# EAGLE library part ARDUINO_MODIFICABLE_ARDUINOR3 (library PICBoardv1.0)
This is a new object for the new Arduino R3 - with extra pins that you may want to use (such as IOref, and duplicated A4/A5
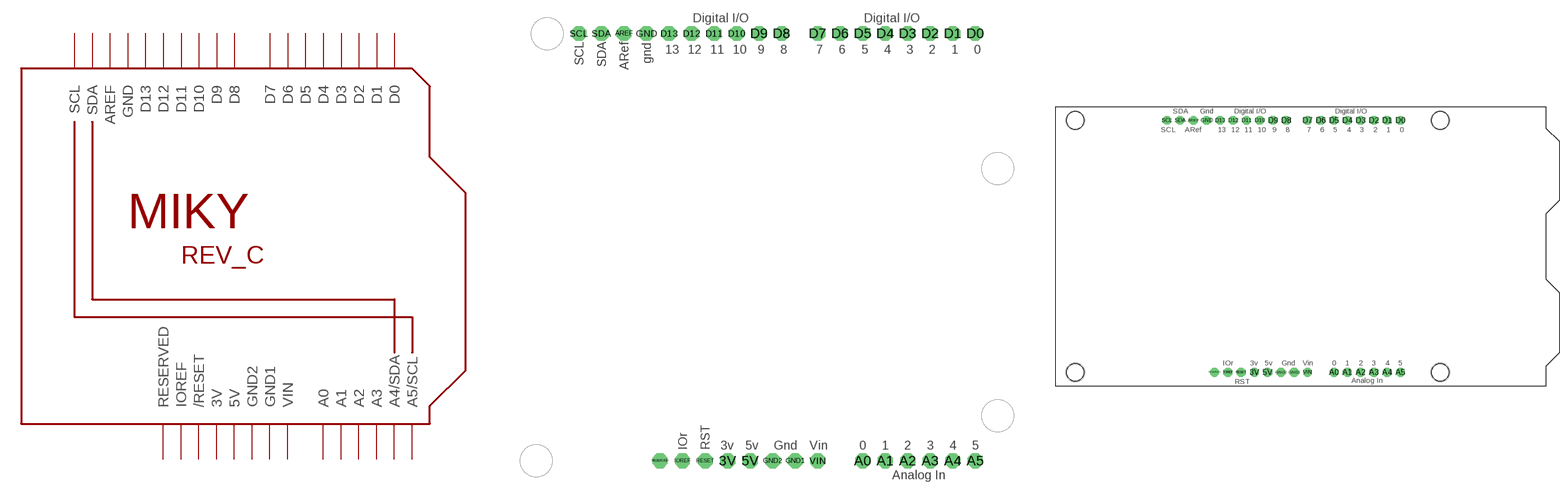
[diagram p0: symbol with the pads of ARDUINO_MODIFICABLE_ARDUINOR3-BPLACE; footprints ARDUINO_MODIFICABLE_ARDUINOR3-BPLACE, ARDUINO_MODIFICABLE_ARDUINOR3]

Designator prefix U

## ARDUINO_MODIFICABLE_ARDUINOR3-BPLACE  [ARDUINO_MODIFICABLE_ARDUINOR3-BPLACE]
3V  3V  pwr
5V  5V  pwr
A0  A0
A1  A1
A2  A2
A3  A3
A4  A4/SDA
A5  A5/SCL
AREF  AREF
D0  D0
D1  D1
D2  D2
D3  D3
D4  D4
D5  D5
D6  D6
D7  D7
D8  D8
D9  D9
D10  D10
D11  D11
D12  D12
D13  D13
GND  GND  pwr
GND1  GND1  pwr
GND2  GND2  pwr
IOREF  IOREF  out
RESERVED  RESERVED  nc
RESET  /RESET
SCL  SCL
SDA  SDA
VIN  VIN  pwr

## ARDUINO_MODIFICABLE_ARDUINOR3-DIMENSION  [ARDUINO_MODIFICABLE_ARDUINOR3]
Pads as for ARDUINO_MODIFICABLE_ARDUINOR3-BPLACE

## Footprint ARDUINO_MODIFICABLE_ARDUINOR3-BPLACE (pad centres in mm)
drill 1 pad 1.676 octagon: 3V 35.56,2.54; 5V 38.1,2.54; A0 50.8,2.54; A1 53.34,2.54; A2 55.88,2.54; A3 58.42,2.54; A4 60.96,2.54; A5 63.5,2.54; AREF 23.876,50.8; D0 63.5,50.8; D1 60.96,50.8; D2 58.42,50.8; D3 55.88,50.8; D4 53.34,50.8; D5 50.8,50.8; D6 48.26,50.8; D7 45.72,50.8; D8 41.656,50.8; D9 39.116,50.8; D10 36.576,50.8; D11 34.036,50.8; D12 31.496,50.8; D13 28.956,50.8; GND 26.416,50.8; GND1 43.18,2.54; GND2 40.64,2.54; IOREF 30.48,2.54; RESERVED 27.94,2.54; RESET 33.02,2.54; SCL 18.796,50.8; SDA 21.336,50.8; VIN 45.72,2.54

## Footprint ARDUINO_MODIFICABLE_ARDUINOR3 (pad centres in mm)
The new Arduino R3 'classic' adds duplicate I2C pins and an IORef pin (and an unused pin
drill 1 pad 1.676 octagon: 3V 38.1,2.54; 5V 40.64,2.54; A0 53.34,2.54; A1 55.88,2.54; A2 58.42,2.54; A3 60.96,2.54; A4 63.5,2.54; A5 66.04,2.54; AREF 26.416,50.8; D0 66.04,50.8; D1 63.5,50.8; D2 60.96,50.8; D3 58.42,50.8; D4 55.88,50.8; D5 53.34,50.8; D6 50.8,50.8; D7 48.26,50.8; D8 44.196,50.8; D9 41.656,50.8; D10 39.116,50.8; D11 36.576,50.8; D12 34.036,50.8; D13 31.496,50.8; GND 28.956,50.8; GND1 45.72,2.54; GND2 43.18,2.54; IOREF 33.02,2.54; RESERVED 30.48,2.54; RESET 35.56,2.54; SCL 21.336,50.8; SDA 23.876,50.8; VIN 48.26,2.54
hole 3.302 at 3.81,50.8
hole 3.302 at 3.81,2.54
hole 3.302 at 73.66,2.54
hole 3.302 at 73.66,50.8